# Altium footprint library IEA_uRobots_v2.PcbLib: 2 footprints
Each footprint in its own frame and in the unit in brackets; x right, y up, seen from the top. Pads: shape width x height; smd on the part's side, far side on the other; paste and mask are expansions set on the pad; w line width, h text height; cw(c..) or ccw(c..) is an arc to the next point about the centre after c.
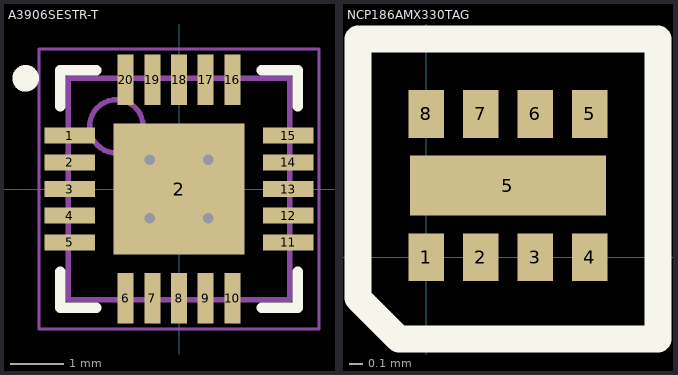
[diagram p0: the footprints below, top view; thin cyan lines are the x and y axes]

## A3906SESTR-T [mm] "Low Voltage Stepper and Single/Dual DC Motor Driver, QFN, 20-Leads, Body 4.00x4.00mm, Pitch 0.50mm, Thermal Pad 2.45x2.45mm, IPC Medium Density"
height 0.8
pads (21):
  rect 0.95x0.3 smd: 1(-2.05,1) 2(-2.05,0.5) 3(-2.05,0) 4(-2.05,-0.5) 5(-2.05,-1) 11(2.05,-1) 12(2.05,-0.5) 13(2.05,0) 14(2.05,0.5) 15(2.05,1)
  rect 2.45x2.45 smd: 2(0,0)
  rect 0.3x0.95 smd: 6(-1,-2.05) 7(-0.5,-2.05) 8(0,-2.05) 9(0.5,-2.05) 10(1,-2.05) 16(1,2.05) 17(0.5,2.05) 18(0,2.05) 19(-0.5,2.05) 20(-1,2.05)
via 0.55,-0.55 diameter 0.5 hole 0.2
via -0.55,-0.55 diameter 0.5 hole 0.2
via 0.55,0.55 diameter 0.5 hole 0.2
via -0.55,0.55 diameter 0.5 hole 0.2
Top Overlay:
  circle w0.25: c-2.875,2.075 r0.125
  lines w0.2: -2.225,-1.55 -2.225,-2.225 -1.55,-2.225 ; -2.225,1.55 -2.225,2.225 -1.55,2.225 ; 1.55,-2.225 2.225,-2.225 2.225,-1.55 ; 1.55,2.225 2.225,2.225 2.225,1.55
Mechanical 13:
  circle w0.1: c-1.175,1.175 r0.5
  lines w0.1: -2.075,-2.075 2.075,-2.075 2.075,2.075 -2.075,2.075 -2.075,-2.075
Mechanical 15:
  lines w0.05: -2.625,-2.625 2.625,-2.625 2.625,2.625 -2.625,2.625 -2.625,-2.625
  lines w0.1: -0.5,0 0.5,0 ; 0,-0.5 0,0.5
3D body "A3906SESTR-T.step": height 0.8, standoff 0, extent -2.085,-2.085 2.085,2.085

## NCP186AMX330TAG [mm] "XDFN8, Body 1.60x1.20mm, Pitch 0.40mm, IPC Medium Density"
height 0.45
pads (9):
  rect 0.26x0.35 smd: 1(0,0) 2(0.4,0) 3(0.8,0) 4(1.2,0) 5(1.2,1.05) 6(0.8,1.05) 7(0.4,1.05) 8(0,1.05)
  rect 1.44x0.44 smd: 5(0.6,0.525)
Top Overlay:
  lines w0.2: -0.5,-0.3 -0.5,1.6 1.7,1.6 1.7,-0.6 -0.2,-0.6 -0.5,-0.3
3D body: height 0.45, standoff 0, extent -0.2,-0.115 1.4,1.175